# Altium schematic symbol library con-molex-mini-fit.SCHLIB: 168 symbols (part 4 of 4)
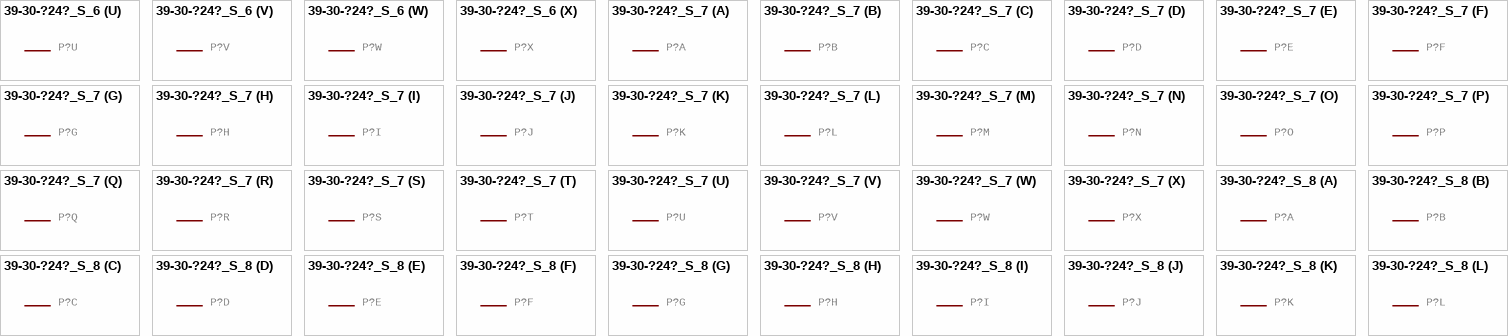
[diagram p68: symbols 39-30-?24?_S_6 to 39-30-?24?_S_8]

## 39-30-?24?_S_7
designator P?, comment HEADER  (value not drawn)
GateName_1: -1; SymbolName_1: P-NV; GateName_2: -2; SymbolName_2: P-N; GateName_3: -3; GateName_4: -4; GateName_5: -5; GateName_6: -6; GateName_7: -7; GateName_8: -8; GateName_9: -9; GateName_10: -10; GateName_11: -11; GateName_12: -12; GateName_13: -13; GateName_14: -14; GateName_15: -15; GateName_16: -16; GateName_17: -17; GateName_18: -18; GateName_19: -19; GateName_20: -20; GateName_21: -21; GateName_22: -22; GateName_23: -23; GateName_24: -24; DeviceSetName: 39-30-?24?_S; SymbolName_3: P-N; SymbolName_4: P-N; SymbolName_5: P-N; SymbolName_6: P-N; SymbolName_7: P-N; SymbolName_8: P-N; SymbolName_9: P-N; SymbolName_10: P-N; SymbolName_11: P-N; SymbolName_12: P-N; SymbolName_13: P-N; SymbolName_14: P-N; SymbolName_15: P-N; SymbolName_16: P-N; SymbolName_17: P-N; SymbolName_18: P-N; SymbolName_19: P-N; SymbolName_20: P-N; SymbolName_21: P-N; SymbolName_22: P-N; SymbolName_23: P-N; SymbolName_24: P-N; LibraryName: con-molex-mini-fit; Package: 39-30-?24?
footprint 39-30-?24?
part A pins: 1 P
part B pins: 2 P
part C pins: 3 P
part D pins: 4 P
part E pins: 5 P
part F pins: 6 P
part G pins: 7 P
part H pins: 8 P
part I pins: 9 P
part J pins: 10 P
part K pins: 11 P
part L pins: 12 P
part M pins: 13 P
part N pins: 14 P
part O pins: 15 P
part P pins: 16 P
part Q pins: 17 P
part R pins: 18 P
part S pins: 19 P
part T pins: 20 P
part U pins: 21 P
part V pins: 22 P
part W pins: 23 P
part X pins: 24 P

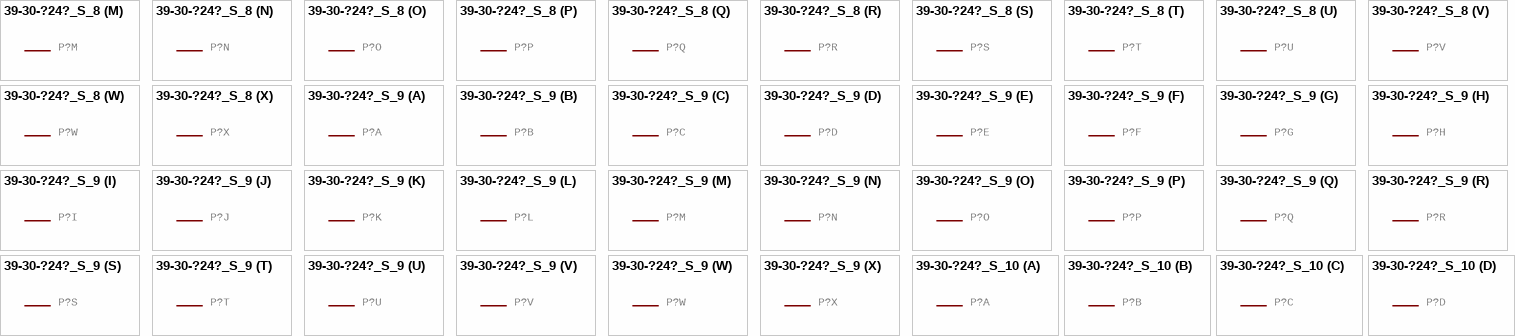
[diagram p56: symbols 39-30-?24?_S_8 to 39-30-?24?_S_10]

## 39-30-?24?_S_8
designator P?, comment HEADER  (value not drawn)
GateName_1: -1; SymbolName_1: P-NV; GateName_2: -2; SymbolName_2: P-N; GateName_3: -3; GateName_4: -4; GateName_5: -5; GateName_6: -6; GateName_7: -7; GateName_8: -8; GateName_9: -9; GateName_10: -10; GateName_11: -11; GateName_12: -12; GateName_13: -13; GateName_14: -14; GateName_15: -15; GateName_16: -16; GateName_17: -17; GateName_18: -18; GateName_19: -19; GateName_20: -20; GateName_21: -21; GateName_22: -22; GateName_23: -23; GateName_24: -24; DeviceSetName: 39-30-?24?_S; SymbolName_3: P-N; SymbolName_4: P-N; SymbolName_5: P-N; SymbolName_6: P-N; SymbolName_7: P-N; SymbolName_8: P-N; SymbolName_9: P-N; SymbolName_10: P-N; SymbolName_11: P-N; SymbolName_12: P-N; SymbolName_13: P-N; SymbolName_14: P-N; SymbolName_15: P-N; SymbolName_16: P-N; SymbolName_17: P-N; SymbolName_18: P-N; SymbolName_19: P-N; SymbolName_20: P-N; SymbolName_21: P-N; SymbolName_22: P-N; SymbolName_23: P-N; SymbolName_24: P-N; LibraryName: con-molex-mini-fit; Package: 39-30-?24?
footprint 39-30-?24?
part A pins: 1 P
part B pins: 2 P
part C pins: 3 P
part D pins: 4 P
part E pins: 5 P
part F pins: 6 P
part G pins: 7 P
part H pins: 8 P
part I pins: 9 P
part J pins: 10 P
part K pins: 11 P
part L pins: 12 P
part M pins: 13 P
part N pins: 14 P
part O pins: 15 P
part P pins: 16 P
part Q pins: 17 P
part R pins: 18 P
part S pins: 19 P
part T pins: 20 P
part U pins: 21 P
part V pins: 22 P
part W pins: 23 P
part X pins: 24 P

## 39-30-?24?_S_9
designator P?, comment HEADER  (value not drawn)
GateName_1: -1; SymbolName_1: P-NV; GateName_2: -2; SymbolName_2: P-N; GateName_3: -3; GateName_4: -4; GateName_5: -5; GateName_6: -6; GateName_7: -7; GateName_8: -8; GateName_9: -9; GateName_10: -10; GateName_11: -11; GateName_12: -12; GateName_13: -13; GateName_14: -14; GateName_15: -15; GateName_16: -16; GateName_17: -17; GateName_18: -18; GateName_19: -19; GateName_20: -20; GateName_21: -21; GateName_22: -22; GateName_23: -23; GateName_24: -24; DeviceSetName: 39-30-?24?_S; SymbolName_3: P-N; SymbolName_4: P-N; SymbolName_5: P-N; SymbolName_6: P-N; SymbolName_7: P-N; SymbolName_8: P-N; SymbolName_9: P-N; SymbolName_10: P-N; SymbolName_11: P-N; SymbolName_12: P-N; SymbolName_13: P-N; SymbolName_14: P-N; SymbolName_15: P-N; SymbolName_16: P-N; SymbolName_17: P-N; SymbolName_18: P-N; SymbolName_19: P-N; SymbolName_20: P-N; SymbolName_21: P-N; SymbolName_22: P-N; SymbolName_23: P-N; SymbolName_24: P-N; LibraryName: con-molex-mini-fit; Package: 39-30-?24?
footprint 39-30-?24?
part A pins: 1 P
part B pins: 2 P
part C pins: 3 P
part D pins: 4 P
part E pins: 5 P
part F pins: 6 P
part G pins: 7 P
part H pins: 8 P
part I pins: 9 P
part J pins: 10 P
part K pins: 11 P
part L pins: 12 P
part M pins: 13 P
part N pins: 14 P
part O pins: 15 P
part P pins: 16 P
part Q pins: 17 P
part R pins: 18 P
part S pins: 19 P
part T pins: 20 P
part U pins: 21 P
part V pins: 22 P
part W pins: 23 P
part X pins: 24 P

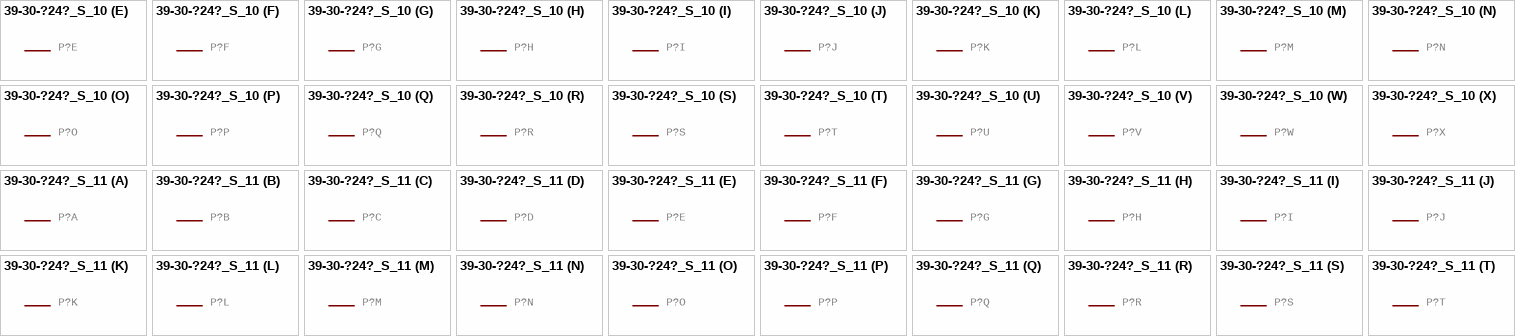
[diagram p57: symbols 39-30-?24?_S_10 to 39-30-?24?_S_11]

## 39-30-?24?_S_10
designator P?, comment HEADER  (value not drawn)
GateName_1: -1; SymbolName_1: P-NV; GateName_2: -2; SymbolName_2: P-N; GateName_3: -3; GateName_4: -4; GateName_5: -5; GateName_6: -6; GateName_7: -7; GateName_8: -8; GateName_9: -9; GateName_10: -10; GateName_11: -11; GateName_12: -12; GateName_13: -13; GateName_14: -14; GateName_15: -15; GateName_16: -16; GateName_17: -17; GateName_18: -18; GateName_19: -19; GateName_20: -20; GateName_21: -21; GateName_22: -22; GateName_23: -23; GateName_24: -24; DeviceSetName: 39-30-?24?_S; SymbolName_3: P-N; SymbolName_4: P-N; SymbolName_5: P-N; SymbolName_6: P-N; SymbolName_7: P-N; SymbolName_8: P-N; SymbolName_9: P-N; SymbolName_10: P-N; SymbolName_11: P-N; SymbolName_12: P-N; SymbolName_13: P-N; SymbolName_14: P-N; SymbolName_15: P-N; SymbolName_16: P-N; SymbolName_17: P-N; SymbolName_18: P-N; SymbolName_19: P-N; SymbolName_20: P-N; SymbolName_21: P-N; SymbolName_22: P-N; SymbolName_23: P-N; SymbolName_24: P-N; LibraryName: con-molex-mini-fit; Package: 39-30-?24?
footprint 39-30-?24?
part A pins: 1 P
part B pins: 2 P
part C pins: 3 P
part D pins: 4 P
part E pins: 5 P
part F pins: 6 P
part G pins: 7 P
part H pins: 8 P
part I pins: 9 P
part J pins: 10 P
part K pins: 11 P
part L pins: 12 P
part M pins: 13 P
part N pins: 14 P
part O pins: 15 P
part P pins: 16 P
part Q pins: 17 P
part R pins: 18 P
part S pins: 19 P
part T pins: 20 P
part U pins: 21 P
part V pins: 22 P
part W pins: 23 P
part X pins: 24 P

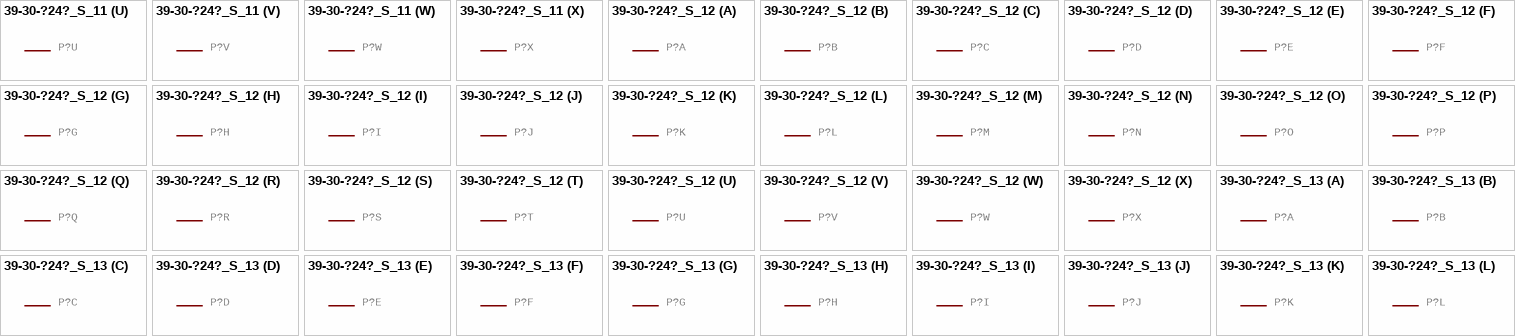
[diagram p58: symbols 39-30-?24?_S_11 to 39-30-?24?_S_13]

## 39-30-?24?_S_11
designator P?, comment HEADER  (value not drawn)
GateName_1: -1; SymbolName_1: P-NV; GateName_2: -2; SymbolName_2: P-N; GateName_3: -3; GateName_4: -4; GateName_5: -5; GateName_6: -6; GateName_7: -7; GateName_8: -8; GateName_9: -9; GateName_10: -10; GateName_11: -11; GateName_12: -12; GateName_13: -13; GateName_14: -14; GateName_15: -15; GateName_16: -16; GateName_17: -17; GateName_18: -18; GateName_19: -19; GateName_20: -20; GateName_21: -21; GateName_22: -22; GateName_23: -23; GateName_24: -24; DeviceSetName: 39-30-?24?_S; SymbolName_3: P-N; SymbolName_4: P-N; SymbolName_5: P-N; SymbolName_6: P-N; SymbolName_7: P-N; SymbolName_8: P-N; SymbolName_9: P-N; SymbolName_10: P-N; SymbolName_11: P-N; SymbolName_12: P-N; SymbolName_13: P-N; SymbolName_14: P-N; SymbolName_15: P-N; SymbolName_16: P-N; SymbolName_17: P-N; SymbolName_18: P-N; SymbolName_19: P-N; SymbolName_20: P-N; SymbolName_21: P-N; SymbolName_22: P-N; SymbolName_23: P-N; SymbolName_24: P-N; LibraryName: con-molex-mini-fit; Package: 39-30-?24?
footprint 39-30-?24?
part A pins: 1 P
part B pins: 2 P
part C pins: 3 P
part D pins: 4 P
part E pins: 5 P
part F pins: 6 P
part G pins: 7 P
part H pins: 8 P
part I pins: 9 P
part J pins: 10 P
part K pins: 11 P
part L pins: 12 P
part M pins: 13 P
part N pins: 14 P
part O pins: 15 P
part P pins: 16 P
part Q pins: 17 P
part R pins: 18 P
part S pins: 19 P
part T pins: 20 P
part U pins: 21 P
part V pins: 22 P
part W pins: 23 P
part X pins: 24 P

## 39-30-?24?_S_12
designator P?, comment HEADER  (value not drawn)
GateName_1: -1; SymbolName_1: P-NV; GateName_2: -2; SymbolName_2: P-N; GateName_3: -3; GateName_4: -4; GateName_5: -5; GateName_6: -6; GateName_7: -7; GateName_8: -8; GateName_9: -9; GateName_10: -10; GateName_11: -11; GateName_12: -12; GateName_13: -13; GateName_14: -14; GateName_15: -15; GateName_16: -16; GateName_17: -17; GateName_18: -18; GateName_19: -19; GateName_20: -20; GateName_21: -21; GateName_22: -22; GateName_23: -23; GateName_24: -24; DeviceSetName: 39-30-?24?_S; SymbolName_3: P-N; SymbolName_4: P-N; SymbolName_5: P-N; SymbolName_6: P-N; SymbolName_7: P-N; SymbolName_8: P-N; SymbolName_9: P-N; SymbolName_10: P-N; SymbolName_11: P-N; SymbolName_12: P-N; SymbolName_13: P-N; SymbolName_14: P-N; SymbolName_15: P-N; SymbolName_16: P-N; SymbolName_17: P-N; SymbolName_18: P-N; SymbolName_19: P-N; SymbolName_20: P-N; SymbolName_21: P-N; SymbolName_22: P-N; SymbolName_23: P-N; SymbolName_24: P-N; LibraryName: con-molex-mini-fit; Package: 39-30-?24?
footprint 39-30-?24?
part A pins: 1 P
part B pins: 2 P
part C pins: 3 P
part D pins: 4 P
part E pins: 5 P
part F pins: 6 P
part G pins: 7 P
part H pins: 8 P
part I pins: 9 P
part J pins: 10 P
part K pins: 11 P
part L pins: 12 P
part M pins: 13 P
part N pins: 14 P
part O pins: 15 P
part P pins: 16 P
part Q pins: 17 P
part R pins: 18 P
part S pins: 19 P
part T pins: 20 P
part U pins: 21 P
part V pins: 22 P
part W pins: 23 P
part X pins: 24 P

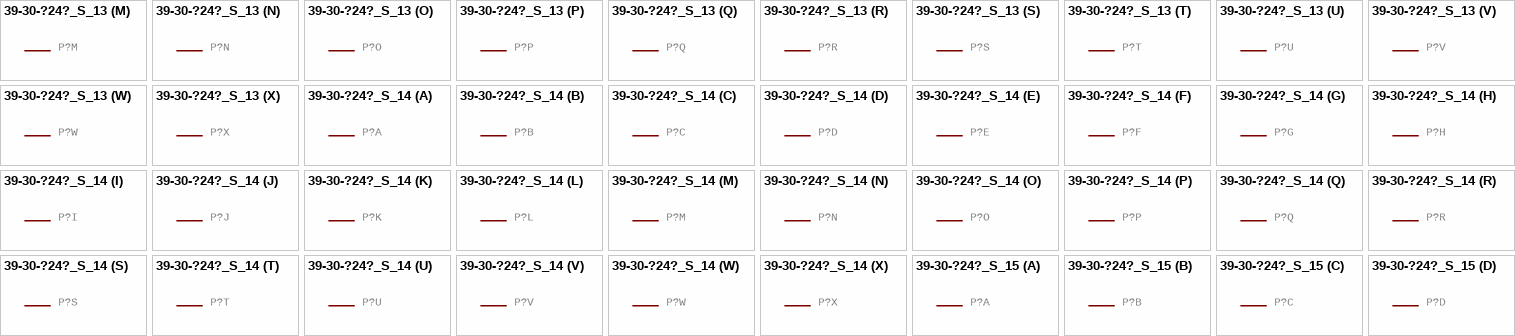
[diagram p59: symbols 39-30-?24?_S_13 to 39-30-?24?_S_15]

## 39-30-?24?_S_13
designator P?, comment HEADER  (value not drawn)
GateName_1: -1; SymbolName_1: P-NV; GateName_2: -2; SymbolName_2: P-N; GateName_3: -3; GateName_4: -4; GateName_5: -5; GateName_6: -6; GateName_7: -7; GateName_8: -8; GateName_9: -9; GateName_10: -10; GateName_11: -11; GateName_12: -12; GateName_13: -13; GateName_14: -14; GateName_15: -15; GateName_16: -16; GateName_17: -17; GateName_18: -18; GateName_19: -19; GateName_20: -20; GateName_21: -21; GateName_22: -22; GateName_23: -23; GateName_24: -24; DeviceSetName: 39-30-?24?_S; SymbolName_3: P-N; SymbolName_4: P-N; SymbolName_5: P-N; SymbolName_6: P-N; SymbolName_7: P-N; SymbolName_8: P-N; SymbolName_9: P-N; SymbolName_10: P-N; SymbolName_11: P-N; SymbolName_12: P-N; SymbolName_13: P-N; SymbolName_14: P-N; SymbolName_15: P-N; SymbolName_16: P-N; SymbolName_17: P-N; SymbolName_18: P-N; SymbolName_19: P-N; SymbolName_20: P-N; SymbolName_21: P-N; SymbolName_22: P-N; SymbolName_23: P-N; SymbolName_24: P-N; LibraryName: con-molex-mini-fit; Package: 39-30-?24?
footprint 39-30-?24?
part A pins: 1 P
part B pins: 2 P
part C pins: 3 P
part D pins: 4 P
part E pins: 5 P
part F pins: 6 P
part G pins: 7 P
part H pins: 8 P
part I pins: 9 P
part J pins: 10 P
part K pins: 11 P
part L pins: 12 P
part M pins: 13 P
part N pins: 14 P
part O pins: 15 P
part P pins: 16 P
part Q pins: 17 P
part R pins: 18 P
part S pins: 19 P
part T pins: 20 P
part U pins: 21 P
part V pins: 22 P
part W pins: 23 P
part X pins: 24 P

## 39-30-?24?_S_14
designator P?, comment HEADER  (value not drawn)
GateName_1: -1; SymbolName_1: P-NV; GateName_2: -2; SymbolName_2: P-N; GateName_3: -3; GateName_4: -4; GateName_5: -5; GateName_6: -6; GateName_7: -7; GateName_8: -8; GateName_9: -9; GateName_10: -10; GateName_11: -11; GateName_12: -12; GateName_13: -13; GateName_14: -14; GateName_15: -15; GateName_16: -16; GateName_17: -17; GateName_18: -18; GateName_19: -19; GateName_20: -20; GateName_21: -21; GateName_22: -22; GateName_23: -23; GateName_24: -24; DeviceSetName: 39-30-?24?_S; SymbolName_3: P-N; SymbolName_4: P-N; SymbolName_5: P-N; SymbolName_6: P-N; SymbolName_7: P-N; SymbolName_8: P-N; SymbolName_9: P-N; SymbolName_10: P-N; SymbolName_11: P-N; SymbolName_12: P-N; SymbolName_13: P-N; SymbolName_14: P-N; SymbolName_15: P-N; SymbolName_16: P-N; SymbolName_17: P-N; SymbolName_18: P-N; SymbolName_19: P-N; SymbolName_20: P-N; SymbolName_21: P-N; SymbolName_22: P-N; SymbolName_23: P-N; SymbolName_24: P-N; LibraryName: con-molex-mini-fit; Package: 39-30-?24?
footprint 39-30-?24?
part A pins: 1 P
part B pins: 2 P
part C pins: 3 P
part D pins: 4 P
part E pins: 5 P
part F pins: 6 P
part G pins: 7 P
part H pins: 8 P
part I pins: 9 P
part J pins: 10 P
part K pins: 11 P
part L pins: 12 P
part M pins: 13 P
part N pins: 14 P
part O pins: 15 P
part P pins: 16 P
part Q pins: 17 P
part R pins: 18 P
part S pins: 19 P
part T pins: 20 P
part U pins: 21 P
part V pins: 22 P
part W pins: 23 P
part X pins: 24 P

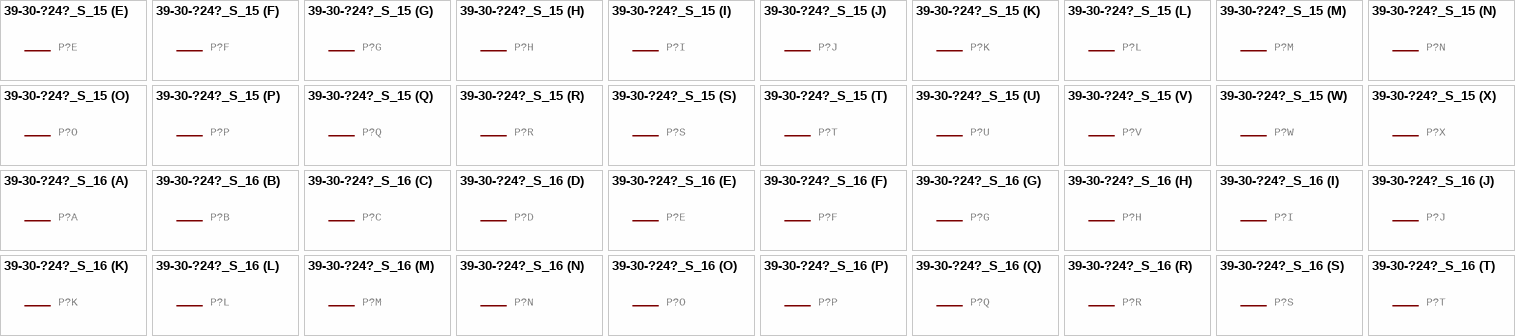
[diagram p60: symbols 39-30-?24?_S_15 to 39-30-?24?_S_16]

## 39-30-?24?_S_15
designator P?, comment HEADER  (value not drawn)
GateName_1: -1; SymbolName_1: P-NV; GateName_2: -2; SymbolName_2: P-N; GateName_3: -3; GateName_4: -4; GateName_5: -5; GateName_6: -6; GateName_7: -7; GateName_8: -8; GateName_9: -9; GateName_10: -10; GateName_11: -11; GateName_12: -12; GateName_13: -13; GateName_14: -14; GateName_15: -15; GateName_16: -16; GateName_17: -17; GateName_18: -18; GateName_19: -19; GateName_20: -20; GateName_21: -21; GateName_22: -22; GateName_23: -23; GateName_24: -24; DeviceSetName: 39-30-?24?_S; SymbolName_3: P-N; SymbolName_4: P-N; SymbolName_5: P-N; SymbolName_6: P-N; SymbolName_7: P-N; SymbolName_8: P-N; SymbolName_9: P-N; SymbolName_10: P-N; SymbolName_11: P-N; SymbolName_12: P-N; SymbolName_13: P-N; SymbolName_14: P-N; SymbolName_15: P-N; SymbolName_16: P-N; SymbolName_17: P-N; SymbolName_18: P-N; SymbolName_19: P-N; SymbolName_20: P-N; SymbolName_21: P-N; SymbolName_22: P-N; SymbolName_23: P-N; SymbolName_24: P-N; LibraryName: con-molex-mini-fit; Package: 39-30-?24?
footprint 39-30-?24?
part A pins: 1 P
part B pins: 2 P
part C pins: 3 P
part D pins: 4 P
part E pins: 5 P
part F pins: 6 P
part G pins: 7 P
part H pins: 8 P
part I pins: 9 P
part J pins: 10 P
part K pins: 11 P
part L pins: 12 P
part M pins: 13 P
part N pins: 14 P
part O pins: 15 P
part P pins: 16 P
part Q pins: 17 P
part R pins: 18 P
part S pins: 19 P
part T pins: 20 P
part U pins: 21 P
part V pins: 22 P
part W pins: 23 P
part X pins: 24 P

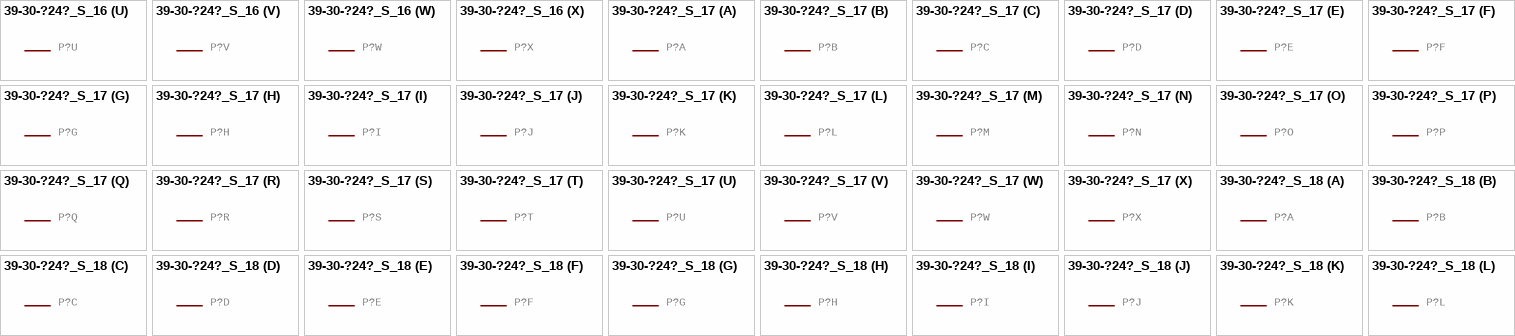
[diagram p61: symbols 39-30-?24?_S_16 to 39-30-?24?_S_18]

## 39-30-?24?_S_16
designator P?, comment HEADER  (value not drawn)
GateName_1: -1; SymbolName_1: P-NV; GateName_2: -2; SymbolName_2: P-N; GateName_3: -3; GateName_4: -4; GateName_5: -5; GateName_6: -6; GateName_7: -7; GateName_8: -8; GateName_9: -9; GateName_10: -10; GateName_11: -11; GateName_12: -12; GateName_13: -13; GateName_14: -14; GateName_15: -15; GateName_16: -16; GateName_17: -17; GateName_18: -18; GateName_19: -19; GateName_20: -20; GateName_21: -21; GateName_22: -22; GateName_23: -23; GateName_24: -24; DeviceSetName: 39-30-?24?_S; SymbolName_3: P-N; SymbolName_4: P-N; SymbolName_5: P-N; SymbolName_6: P-N; SymbolName_7: P-N; SymbolName_8: P-N; SymbolName_9: P-N; SymbolName_10: P-N; SymbolName_11: P-N; SymbolName_12: P-N; SymbolName_13: P-N; SymbolName_14: P-N; SymbolName_15: P-N; SymbolName_16: P-N; SymbolName_17: P-N; SymbolName_18: P-N; SymbolName_19: P-N; SymbolName_20: P-N; SymbolName_21: P-N; SymbolName_22: P-N; SymbolName_23: P-N; SymbolName_24: P-N; LibraryName: con-molex-mini-fit; Package: 39-30-?24?
footprint 39-30-?24?
part A pins: 1 P
part B pins: 2 P
part C pins: 3 P
part D pins: 4 P
part E pins: 5 P
part F pins: 6 P
part G pins: 7 P
part H pins: 8 P
part I pins: 9 P
part J pins: 10 P
part K pins: 11 P
part L pins: 12 P
part M pins: 13 P
part N pins: 14 P
part O pins: 15 P
part P pins: 16 P
part Q pins: 17 P
part R pins: 18 P
part S pins: 19 P
part T pins: 20 P
part U pins: 21 P
part V pins: 22 P
part W pins: 23 P
part X pins: 24 P

## 39-30-?24?_S_17
designator P?, comment HEADER  (value not drawn)
GateName_1: -1; SymbolName_1: P-NV; GateName_2: -2; SymbolName_2: P-N; GateName_3: -3; GateName_4: -4; GateName_5: -5; GateName_6: -6; GateName_7: -7; GateName_8: -8; GateName_9: -9; GateName_10: -10; GateName_11: -11; GateName_12: -12; GateName_13: -13; GateName_14: -14; GateName_15: -15; GateName_16: -16; GateName_17: -17; GateName_18: -18; GateName_19: -19; GateName_20: -20; GateName_21: -21; GateName_22: -22; GateName_23: -23; GateName_24: -24; DeviceSetName: 39-30-?24?_S; SymbolName_3: P-N; SymbolName_4: P-N; SymbolName_5: P-N; SymbolName_6: P-N; SymbolName_7: P-N; SymbolName_8: P-N; SymbolName_9: P-N; SymbolName_10: P-N; SymbolName_11: P-N; SymbolName_12: P-N; SymbolName_13: P-N; SymbolName_14: P-N; SymbolName_15: P-N; SymbolName_16: P-N; SymbolName_17: P-N; SymbolName_18: P-N; SymbolName_19: P-N; SymbolName_20: P-N; SymbolName_21: P-N; SymbolName_22: P-N; SymbolName_23: P-N; SymbolName_24: P-N; LibraryName: con-molex-mini-fit; Package: 39-30-?24?
footprint 39-30-?24?
part A pins: 1 P
part B pins: 2 P
part C pins: 3 P
part D pins: 4 P
part E pins: 5 P
part F pins: 6 P
part G pins: 7 P
part H pins: 8 P
part I pins: 9 P
part J pins: 10 P
part K pins: 11 P
part L pins: 12 P
part M pins: 13 P
part N pins: 14 P
part O pins: 15 P
part P pins: 16 P
part Q pins: 17 P
part R pins: 18 P
part S pins: 19 P
part T pins: 20 P
part U pins: 21 P
part V pins: 22 P
part W pins: 23 P
part X pins: 24 P

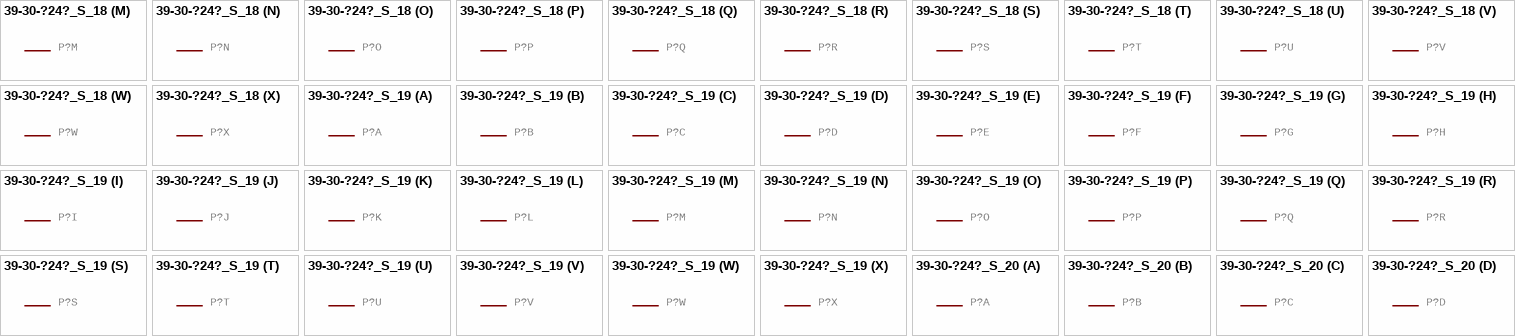
[diagram p62: symbols 39-30-?24?_S_18 to 39-30-?24?_S_20]

## 39-30-?24?_S_18
designator P?, comment HEADER  (value not drawn)
GateName_1: -1; SymbolName_1: P-NV; GateName_2: -2; SymbolName_2: P-N; GateName_3: -3; GateName_4: -4; GateName_5: -5; GateName_6: -6; GateName_7: -7; GateName_8: -8; GateName_9: -9; GateName_10: -10; GateName_11: -11; GateName_12: -12; GateName_13: -13; GateName_14: -14; GateName_15: -15; GateName_16: -16; GateName_17: -17; GateName_18: -18; GateName_19: -19; GateName_20: -20; GateName_21: -21; GateName_22: -22; GateName_23: -23; GateName_24: -24; DeviceSetName: 39-30-?24?_S; SymbolName_3: P-N; SymbolName_4: P-N; SymbolName_5: P-N; SymbolName_6: P-N; SymbolName_7: P-N; SymbolName_8: P-N; SymbolName_9: P-N; SymbolName_10: P-N; SymbolName_11: P-N; SymbolName_12: P-N; SymbolName_13: P-N; SymbolName_14: P-N; SymbolName_15: P-N; SymbolName_16: P-N; SymbolName_17: P-N; SymbolName_18: P-N; SymbolName_19: P-N; SymbolName_20: P-N; SymbolName_21: P-N; SymbolName_22: P-N; SymbolName_23: P-N; SymbolName_24: P-N; LibraryName: con-molex-mini-fit; Package: 39-30-?24?
footprint 39-30-?24?
part A pins: 1 P
part B pins: 2 P
part C pins: 3 P
part D pins: 4 P
part E pins: 5 P
part F pins: 6 P
part G pins: 7 P
part H pins: 8 P
part I pins: 9 P
part J pins: 10 P
part K pins: 11 P
part L pins: 12 P
part M pins: 13 P
part N pins: 14 P
part O pins: 15 P
part P pins: 16 P
part Q pins: 17 P
part R pins: 18 P
part S pins: 19 P
part T pins: 20 P
part U pins: 21 P
part V pins: 22 P
part W pins: 23 P
part X pins: 24 P

## 39-30-?24?_S_19
designator P?, comment HEADER  (value not drawn)
GateName_1: -1; SymbolName_1: P-NV; GateName_2: -2; SymbolName_2: P-N; GateName_3: -3; GateName_4: -4; GateName_5: -5; GateName_6: -6; GateName_7: -7; GateName_8: -8; GateName_9: -9; GateName_10: -10; GateName_11: -11; GateName_12: -12; GateName_13: -13; GateName_14: -14; GateName_15: -15; GateName_16: -16; GateName_17: -17; GateName_18: -18; GateName_19: -19; GateName_20: -20; GateName_21: -21; GateName_22: -22; GateName_23: -23; GateName_24: -24; DeviceSetName: 39-30-?24?_S; SymbolName_3: P-N; SymbolName_4: P-N; SymbolName_5: P-N; SymbolName_6: P-N; SymbolName_7: P-N; SymbolName_8: P-N; SymbolName_9: P-N; SymbolName_10: P-N; SymbolName_11: P-N; SymbolName_12: P-N; SymbolName_13: P-N; SymbolName_14: P-N; SymbolName_15: P-N; SymbolName_16: P-N; SymbolName_17: P-N; SymbolName_18: P-N; SymbolName_19: P-N; SymbolName_20: P-N; SymbolName_21: P-N; SymbolName_22: P-N; SymbolName_23: P-N; SymbolName_24: P-N; LibraryName: con-molex-mini-fit; Package: 39-30-?24?
footprint 39-30-?24?
part A pins: 1 P
part B pins: 2 P
part C pins: 3 P
part D pins: 4 P
part E pins: 5 P
part F pins: 6 P
part G pins: 7 P
part H pins: 8 P
part I pins: 9 P
part J pins: 10 P
part K pins: 11 P
part L pins: 12 P
part M pins: 13 P
part N pins: 14 P
part O pins: 15 P
part P pins: 16 P
part Q pins: 17 P
part R pins: 18 P
part S pins: 19 P
part T pins: 20 P
part U pins: 21 P
part V pins: 22 P
part W pins: 23 P
part X pins: 24 P

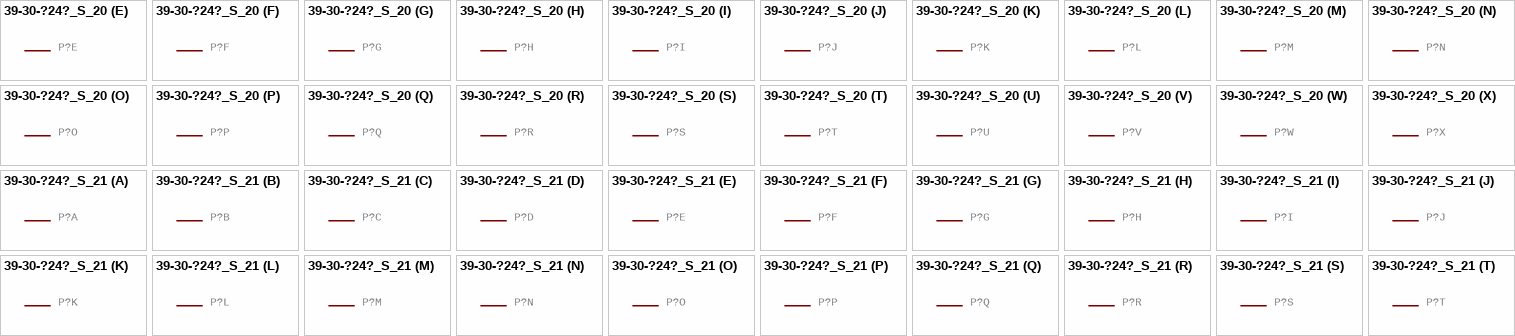
[diagram p63: symbols 39-30-?24?_S_20 to 39-30-?24?_S_21]

## 39-30-?24?_S_20
designator P?, comment HEADER  (value not drawn)
GateName_1: -1; SymbolName_1: P-NV; GateName_2: -2; SymbolName_2: P-N; GateName_3: -3; GateName_4: -4; GateName_5: -5; GateName_6: -6; GateName_7: -7; GateName_8: -8; GateName_9: -9; GateName_10: -10; GateName_11: -11; GateName_12: -12; GateName_13: -13; GateName_14: -14; GateName_15: -15; GateName_16: -16; GateName_17: -17; GateName_18: -18; GateName_19: -19; GateName_20: -20; GateName_21: -21; GateName_22: -22; GateName_23: -23; GateName_24: -24; DeviceSetName: 39-30-?24?_S; SymbolName_3: P-N; SymbolName_4: P-N; SymbolName_5: P-N; SymbolName_6: P-N; SymbolName_7: P-N; SymbolName_8: P-N; SymbolName_9: P-N; SymbolName_10: P-N; SymbolName_11: P-N; SymbolName_12: P-N; SymbolName_13: P-N; SymbolName_14: P-N; SymbolName_15: P-N; SymbolName_16: P-N; SymbolName_17: P-N; SymbolName_18: P-N; SymbolName_19: P-N; SymbolName_20: P-N; SymbolName_21: P-N; SymbolName_22: P-N; SymbolName_23: P-N; SymbolName_24: P-N; LibraryName: con-molex-mini-fit; Package: 39-30-?24?
footprint 39-30-?24?
part A pins: 1 P
part B pins: 2 P
part C pins: 3 P
part D pins: 4 P
part E pins: 5 P
part F pins: 6 P
part G pins: 7 P
part H pins: 8 P
part I pins: 9 P
part J pins: 10 P
part K pins: 11 P
part L pins: 12 P
part M pins: 13 P
part N pins: 14 P
part O pins: 15 P
part P pins: 16 P
part Q pins: 17 P
part R pins: 18 P
part S pins: 19 P
part T pins: 20 P
part U pins: 21 P
part V pins: 22 P
part W pins: 23 P
part X pins: 24 P

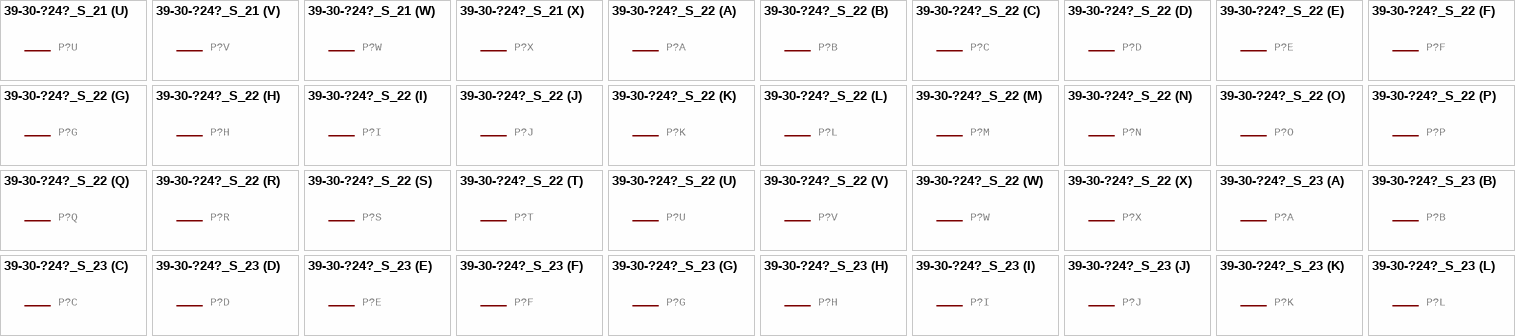
[diagram p64: symbols 39-30-?24?_S_21 to 39-30-?24?_S_23]

## 39-30-?24?_S_21
designator P?, comment HEADER  (value not drawn)
GateName_1: -1; SymbolName_1: P-NV; GateName_2: -2; SymbolName_2: P-N; GateName_3: -3; GateName_4: -4; GateName_5: -5; GateName_6: -6; GateName_7: -7; GateName_8: -8; GateName_9: -9; GateName_10: -10; GateName_11: -11; GateName_12: -12; GateName_13: -13; GateName_14: -14; GateName_15: -15; GateName_16: -16; GateName_17: -17; GateName_18: -18; GateName_19: -19; GateName_20: -20; GateName_21: -21; GateName_22: -22; GateName_23: -23; GateName_24: -24; DeviceSetName: 39-30-?24?_S; SymbolName_3: P-N; SymbolName_4: P-N; SymbolName_5: P-N; SymbolName_6: P-N; SymbolName_7: P-N; SymbolName_8: P-N; SymbolName_9: P-N; SymbolName_10: P-N; SymbolName_11: P-N; SymbolName_12: P-N; SymbolName_13: P-N; SymbolName_14: P-N; SymbolName_15: P-N; SymbolName_16: P-N; SymbolName_17: P-N; SymbolName_18: P-N; SymbolName_19: P-N; SymbolName_20: P-N; SymbolName_21: P-N; SymbolName_22: P-N; SymbolName_23: P-N; SymbolName_24: P-N; LibraryName: con-molex-mini-fit; Package: 39-30-?24?
footprint 39-30-?24?
part A pins: 1 P
part B pins: 2 P
part C pins: 3 P
part D pins: 4 P
part E pins: 5 P
part F pins: 6 P
part G pins: 7 P
part H pins: 8 P
part I pins: 9 P
part J pins: 10 P
part K pins: 11 P
part L pins: 12 P
part M pins: 13 P
part N pins: 14 P
part O pins: 15 P
part P pins: 16 P
part Q pins: 17 P
part R pins: 18 P
part S pins: 19 P
part T pins: 20 P
part U pins: 21 P
part V pins: 22 P
part W pins: 23 P
part X pins: 24 P

## 39-30-?24?_S_22
designator P?, comment HEADER  (value not drawn)
GateName_1: -1; SymbolName_1: P-NV; GateName_2: -2; SymbolName_2: P-N; GateName_3: -3; GateName_4: -4; GateName_5: -5; GateName_6: -6; GateName_7: -7; GateName_8: -8; GateName_9: -9; GateName_10: -10; GateName_11: -11; GateName_12: -12; GateName_13: -13; GateName_14: -14; GateName_15: -15; GateName_16: -16; GateName_17: -17; GateName_18: -18; GateName_19: -19; GateName_20: -20; GateName_21: -21; GateName_22: -22; GateName_23: -23; GateName_24: -24; DeviceSetName: 39-30-?24?_S; SymbolName_3: P-N; SymbolName_4: P-N; SymbolName_5: P-N; SymbolName_6: P-N; SymbolName_7: P-N; SymbolName_8: P-N; SymbolName_9: P-N; SymbolName_10: P-N; SymbolName_11: P-N; SymbolName_12: P-N; SymbolName_13: P-N; SymbolName_14: P-N; SymbolName_15: P-N; SymbolName_16: P-N; SymbolName_17: P-N; SymbolName_18: P-N; SymbolName_19: P-N; SymbolName_20: P-N; SymbolName_21: P-N; SymbolName_22: P-N; SymbolName_23: P-N; SymbolName_24: P-N; LibraryName: con-molex-mini-fit; Package: 39-30-?24?
footprint 39-30-?24?
part A pins: 1 P
part B pins: 2 P
part C pins: 3 P
part D pins: 4 P
part E pins: 5 P
part F pins: 6 P
part G pins: 7 P
part H pins: 8 P
part I pins: 9 P
part J pins: 10 P
part K pins: 11 P
part L pins: 12 P
part M pins: 13 P
part N pins: 14 P
part O pins: 15 P
part P pins: 16 P
part Q pins: 17 P
part R pins: 18 P
part S pins: 19 P
part T pins: 20 P
part U pins: 21 P
part V pins: 22 P
part W pins: 23 P
part X pins: 24 P

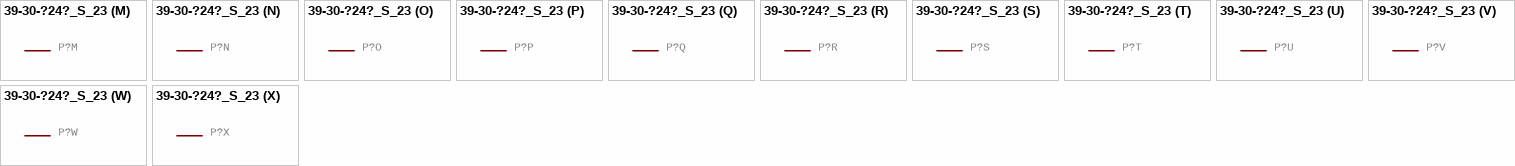
[diagram p65: symbol 39-30-?24?_S_23]

## 39-30-?24?_S_23
designator P?, comment HEADER  (value not drawn)
GateName_1: -1; SymbolName_1: P-NV; GateName_2: -2; SymbolName_2: P-N; GateName_3: -3; GateName_4: -4; GateName_5: -5; GateName_6: -6; GateName_7: -7; GateName_8: -8; GateName_9: -9; GateName_10: -10; GateName_11: -11; GateName_12: -12; GateName_13: -13; GateName_14: -14; GateName_15: -15; GateName_16: -16; GateName_17: -17; GateName_18: -18; GateName_19: -19; GateName_20: -20; GateName_21: -21; GateName_22: -22; GateName_23: -23; GateName_24: -24; DeviceSetName: 39-30-?24?_S; SymbolName_3: P-N; SymbolName_4: P-N; SymbolName_5: P-N; SymbolName_6: P-N; SymbolName_7: P-N; SymbolName_8: P-N; SymbolName_9: P-N; SymbolName_10: P-N; SymbolName_11: P-N; SymbolName_12: P-N; SymbolName_13: P-N; SymbolName_14: P-N; SymbolName_15: P-N; SymbolName_16: P-N; SymbolName_17: P-N; SymbolName_18: P-N; SymbolName_19: P-N; SymbolName_20: P-N; SymbolName_21: P-N; SymbolName_22: P-N; SymbolName_23: P-N; SymbolName_24: P-N; LibraryName: con-molex-mini-fit; Package: 39-30-?24?
footprint 39-30-?24?
part A pins: 1 P
part B pins: 2 P
part C pins: 3 P
part D pins: 4 P
part E pins: 5 P
part F pins: 6 P
part G pins: 7 P
part H pins: 8 P
part I pins: 9 P
part J pins: 10 P
part K pins: 11 P
part L pins: 12 P
part M pins: 13 P
part N pins: 14 P
part O pins: 15 P
part P pins: 16 P
part Q pins: 17 P
part R pins: 18 P
part S pins: 19 P
part T pins: 20 P
part U pins: 21 P
part V pins: 22 P
part W pins: 23 P
part X pins: 24 P